# Altium footprint library TF_WE_LAN_16.PcbLib: 1 footprints
Each footprint in its own frame and in the unit in brackets; x right, y up, seen from the top. Pads: shape width x height; smd on the part's side, far side on the other; paste and mask are expansions set on the pad; w line width, h text height; cw(c..) or ccw(c..) is an arc to the next point about the centre after c.
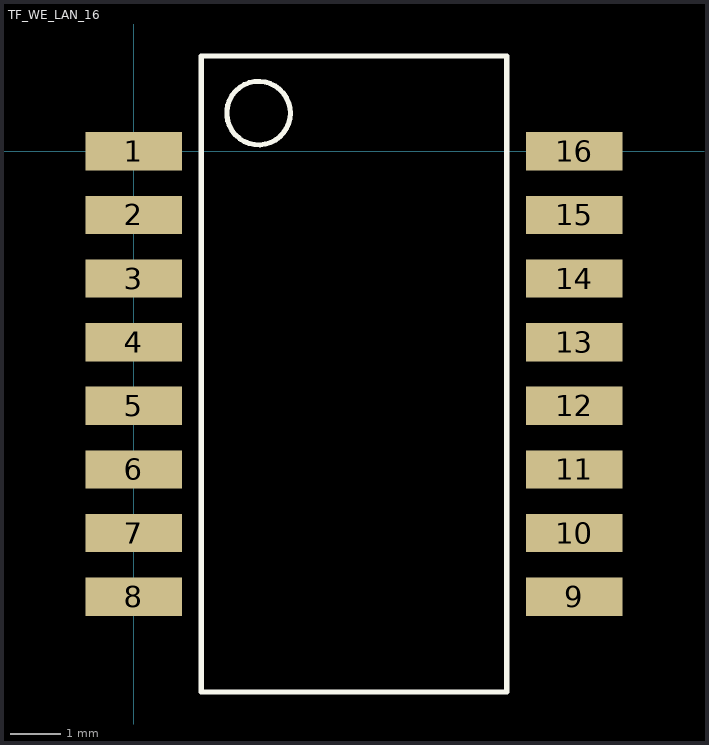
[diagram p0: the footprint, top view; thin cyan lines are the x and y axes]

## TF_WE_LAN_16 [mil] "TF_WE_LAN_16"
pads (16):
  rect 76x30 smd: 1(0,0) 2(0,-50) 3(0,-100) 4(0,-150) 5(0,-200) 6(0,-250) 7(0,-300) 8(0,-350) 9(346,-350) 10(346,-300) 11(346,-250) 12(346,-200) 13(346,-150) 14(346,-100) 15(346,-50) 16(346,0)
Top Overlay:
  circle w4: c98,30 r25
  lines w4: 53,-425 293,-425 293,75 53,75 53,-425